# Altium schematic symbol library Header_Harwin_M50-3600842.SchLib: 1 symbol
Pins are listed as number, name and electrical type; pins without a type are passive.

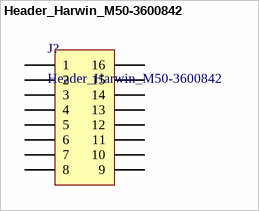
[diagram p0: symbol Header_Harwin_M50-3600842]

## Header_Harwin_M50-3600842
designator J?
pins: 1, 2, 3, 4, 5, 6, 7, 8, 9, 10, 11, 12, 13, 14, 15, 16